# Altium footprint library PCB - CONNECTOR - SAMTEC - SAMTEC SSW-101-03-T-S.PCBLIB: 1 footprints
Each footprint in its own frame and in the unit in brackets; x right, y up, seen from the top. Pads: shape width x height; smd on the part's side, far side on the other; paste and mask are expansions set on the pad; w line width, h text height; cw(c..) or ccw(c..) is an arc to the next point about the centre after c.
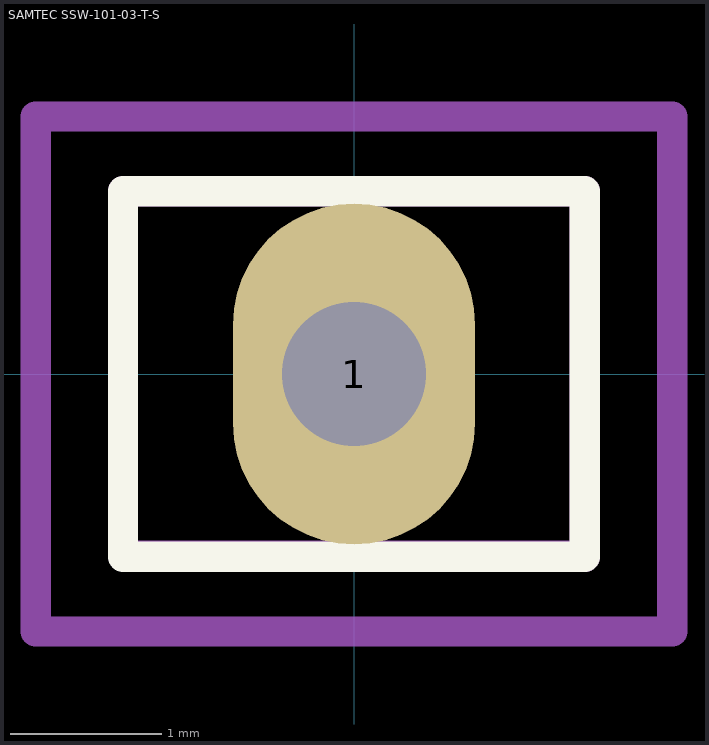
[diagram p0: the footprint, top view; thin cyan lines are the x and y axes]

## SAMTEC SSW-101-03-T-S [mm]
height 8.51
pads (1):
  oval 1.6x2.25 hole 0.95: 1(0,0)
Top Overlay:
  lines w0.2: 1.524,-1.2 1.524,-1.206 ; 1.524,-1.206 -1.524,-1.206 -1.524,1.207 1.524,1.207 1.524,-1.206
Mechanical 13:
  lines w0.2: 1.524,-1.206 1.524,1.207 -1.524,1.207 -1.524,-1.2 1.524,-1.2
Mechanical 15:
  lines w0.2: -0.5,0 0.5,0 ; 0,-0.5 0,0.5 ; -2.1,-1.7 2.1,-1.7 2.1,1.7 -2.1,1.7 -2.1,-1.7
3D body "Samtec-SSW-101-03-T-S.STEP": height 8.51, standoff -10.01, extent -1.524,-1.206 1.524,1.207